# Altium footprint library MedEnginePCBLib.PcbLib: 54 footprints (part 4 of 4)
Each footprint in its own frame and in the unit in brackets; x right, y up, seen from the top. Pads: shape width x height; smd on the part's side, far side on the other; paste and mask are expansions set on the pad; w line width, h text height; cw(c..) or ccw(c..) is an arc to the next point about the centre after c.
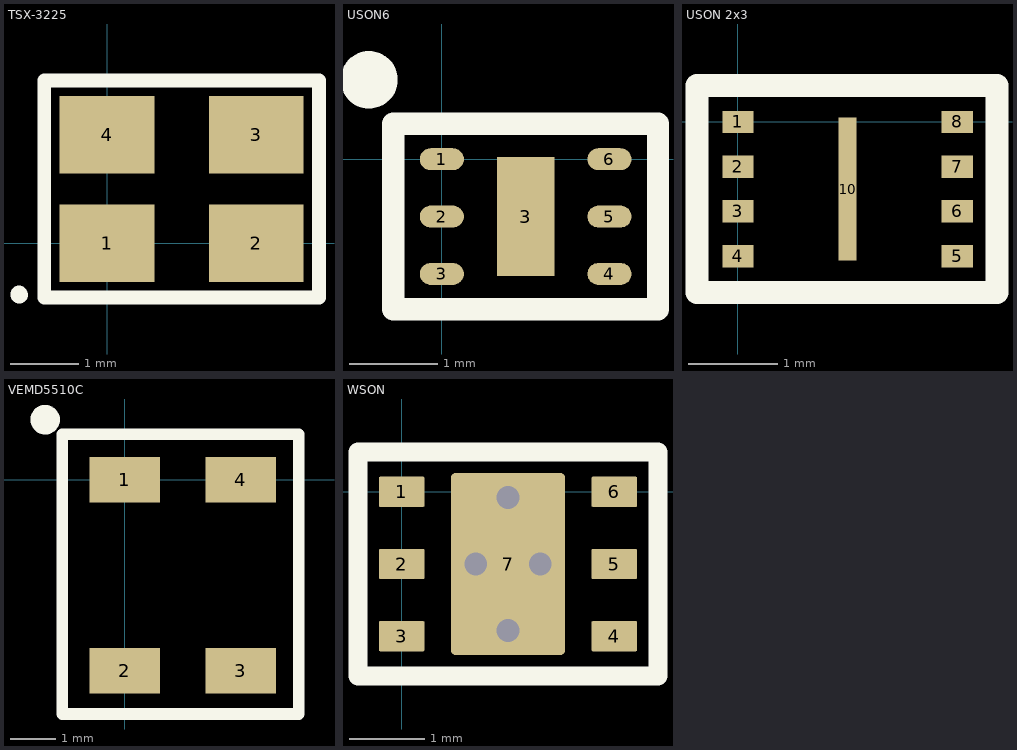
[diagram p3: the footprints below, top view; thin cyan lines are the x and y axes]

## TSX-3225 [mm] "Epson TSX-3225 24MHz Crystal"
height 0.6
pads (4):
  rect 1.4x1.15 smd: 1(0,0) 2(2.2,0) 3(2.2,1.6) 4(0,1.6)
Top Overlay:
  lines w0.2: -0.925,-0.8 -0.925,2.4 3.125,2.4 3.125,-0.8 -0.925,-0.8
  lines w0.254: -1.3,-0.75 -1.295,-0.762
3D body "TSX-3225 24.0000MF10Z-C3.STEP": height 0.6, standoff 0, extent -0.5,-0.45 2.7,2.05

## USB VERTICAL [mm]

## USON6 [mm] "USON"
height 0.65
pads (7):
  oval 0.5x0.25 smd mask+0.07: 1(0,0) 2(0,-0.65) 3(0,-1.3) 4(1.9,-1.3) 5(1.9,-0.65) 6(1.9,0)
  rect 0.65x1.35 smd paste+0.01 mask+0.07: 3(0.95,-0.65)
Top Overlay:
  circle w0.4: c-0.825,0.9 r0.125
  lines w0.254: -0.55,-1.7 -0.55,0.4 -0.35,0.4 2.45,0.4 2.45,-1.7 -0.55,-1.7
3D body: height 0.7, standoff 0, extent -0.1,-1.7 2,0.4

## USON 2x3 [mm] "For Winbond W25X40CLUXIGCT-ND"
pads (9):
  rect 0.35x0.25 smd mask+0.05: 1(0,0) 2(0,-0.5) 3(0,-1) 4(0,-1.5) 5(2.45,-1.5) 6(2.45,-1) 7(2.45,-0.5) 8(2.45,0)
  rect 0.2x1.6 smd mask+0.05: 10(1.225,-0.75)
Top Overlay:
  lines w0.254: -0.457,-1.905 2.896,-1.905 2.896,0.406 -0.457,0.406 -0.457,0 -0.457,-1.905
3D body: height 0.55, standoff 0, extent -0.33,-1.778 2.769,0.279

## VEMD5510C [mm] "SILICON PIN PHOTODIODE"
pads (4):
  rect 1.55x1 smd paste+0.01 mask+0.07: 1(0,0) 2(0,-4.2) 3(2.55,-4.2) 4(2.55,0)
Top Overlay:
  circle w0.4: c-1.75,1.325 r0.125
  lines w0.254: -1.375,-5.15 3.825,-5.15 3.825,1 -1.375,1 -1.375,-5.15
3D body: height 1, standoff 0, extent -1.2,-4.95 3.625,0.775
3D body: height 0.51, standoff -1.6, extent 0.75,-2.225 0.75,-2.225

## WSON [mm] "WSON 7"
height 0.8
pads (7):
  rrect10% 0.6x0.4 smd paste+0 mask+0.07: 1(0,0) 2(0,-0.95) 3(0,-1.9) 4(2.8,-1.9) 5(2.8,-0.95) 6(2.8,0)
  rrect8% 1.5x2.4 smd paste-3 mask+0.07: 7(1.4,-0.95)
via 1.4,-1.825 diameter 0.6 hole 0.3
via 0.975,-0.95 diameter 0.6 hole 0.3
via 1.825,-0.95 diameter 0.6 hole 0.3
via 1.4,-0.075 diameter 0.6 hole 0.3
Top Overlay:
  lines w0.254: -0.575,-2.425 -0.575,0.525 3.375,0.525 3.375,-2.425 -0.575,-2.425
Top Paste:
  rectangle: 0.725,-2.075 2.075,-1.175
  rectangle: 0.725,-0.725 2.075,0.175
3D body: height 0.7, standoff 0, extent 0,-2.45 3,0.55